# Altium schematic symbol library NCP16.SchLib: 1 symbol
Pins are listed as number, name and electrical type; pins without a type are passive.

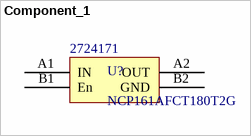
[diagram p0: symbol Component_1]

## Component_1
designator U?, comment NCP161AFCT180T2G  Supplier Part Number 1: 2724171
Supplier 1: Farnell
footprint NCP16 (Footprint not found)
pins: A1 IN, A2 OUT, B1 En, B2 GND